# EAGLE library part BRICK_TO_POWER_DIST_WHOLE (library PDB_TO_BRICKS)
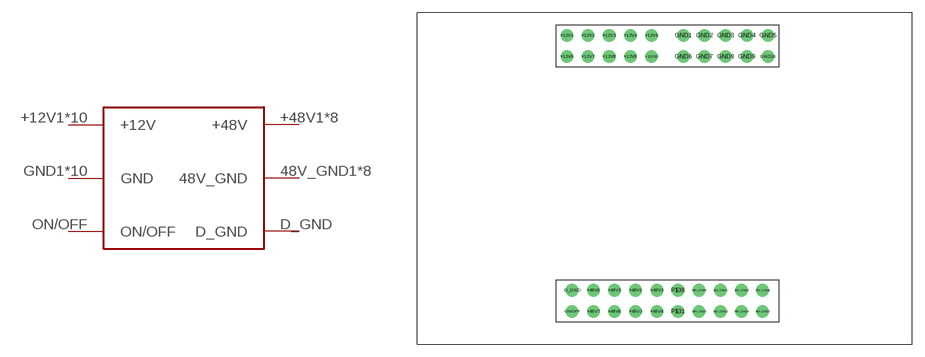
[diagram p2: symbol with the pads of BRICK_TO_POWER_DIST_WHOLE; footprint BRICK_TO_POWER_DIST_WHOLE]

Designator prefix -

## BRICK_TO_POWER_DIST_WHOLE  [BRICK_TO_POWER_DIST_WHOLE]
48V_GND1  48V_GND
48V_GND2  48V_GND
48V_GND3  48V_GND
48V_GND4  48V_GND
48V_GND5  48V_GND
48V_GND6  48V_GND
48V_GND7  48V_GND
48V_GND8  48V_GND
+12V1  +12V
+12V2  +12V
+12V3  +12V
+12V4  +12V
+12V5  +12V
+12V6  +12V
+12V7  +12V
+12V8  +12V
+12V9  +12V
+12V10  +12V
+48V1  +48V
+48V2  +48V
+48V3  +48V
+48V4  +48V
+48V5  +48V
+48V6  +48V
+48V7  +48V
+48V8  +48V
D_GND  D_GND
GND1  GND
GND2  GND
GND3  GND
GND4  GND
GND5  GND
GND6  GND
GND7  GND
GND8  GND
GND9  GND
GND10  GND
ON/OFF  ON/OFF

## Footprint BRICK_TO_POWER_DIST_WHOLE (pad centres in mm)
drill 1: 48V_GND1 36.405,6.47; 48V_GND2 38.945,6.47; 48V_GND3 36.405,3.93; 48V_GND4 38.945,3.93; 48V_GND5 33.865,3.93; 48V_GND6 33.865,6.47; 48V_GND7 41.485,3.93; 48V_GND8 41.485,6.47; +12V1 17.99,37.05; +12V2 20.53,37.05; +12V3 23.07,37.05; +12V4 25.61,37.05; +12V5 28.15,37.05; +12V6 17.99,34.51; +12V7 20.53,34.51; +12V8 23.07,34.51; +12V9 25.61,34.51; +12V10 28.15,34.51; +48V1 26.245,6.47; +48V2 28.785,6.47; +48V3 26.245,3.93; +48V4 28.785,3.93; +48V5 23.705,6.47; +48V6 23.705,3.93; +48V7 21.165,3.93; +48V8 21.165,6.47; D_GND 18.625,6.47; GND1 31.96,37.05; GND2 34.5,37.05; GND3 37.04,37.05; GND4 39.58,37.05; GND5 42.12,37.05; GND6 31.96,34.51; GND7 34.5,34.51; GND8 37.04,34.51; GND9 39.58,34.51; GND10 42.12,34.51; ON/OFF 18.625,3.93; P$31 31.325,3.93; P$36 31.325,6.47